# EAGLE library part ADS1100 (library bbauv)
Self-Calibrating, 16-Bit ANALOG-TO-DIGITAL CONVERTER
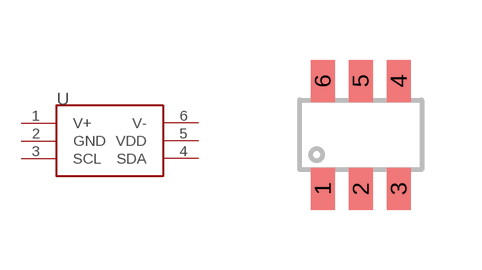
[diagram p5: symbol with the pads of SOT23-6; footprint SOT23-6]

Designator prefix -

## ADS1100  [SOT23-6]
1  V+  in
2  GND  pwr
3  SCL
4  SDA
5  VDD  pwr
6  V-  in

## Footprint SOT23-6 (pad centres in mm)
smd 0.6 x 1.05: 1 -0.95,-1.35; 2 0,-1.35; 3 0.95,-1.35; 4 0.95,1.35; 5 0,1.35; 6 -0.95,1.35